# Altium integrated library TPS7A2033PDBVR.IntLib: 1 symbol
Pins are listed as number, name and electrical type; pins without a type are passive.

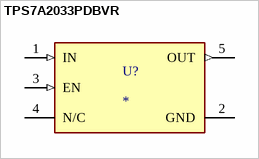
[diagram p0: symbol TPS7A2033PDBVR]

## TPS7A2033PDBVR
designator U?
300-mA ultra-low-noise low-IQ low-dropout (LDO) linear regulator with high PSRR; MF: Texas Instruments; MP: TPS7A2033PDBVR; SnapEDA_Link: https://www.snapeda.com/parts/TPS7A2033PDBVR/Texas+Instruments/view-part/?ref=snap; Package: SOT-23 Texas Instruments; Value: *; Check_prices: https://www.snapeda.com/parts/TPS7A2033PDBVR/Texas+Instruments/view-part/?ref=eda
footprint SOT95P280X145-5N
pins: 1 IN (in), 2 GND (power), 3 EN (in), 4 N/C, 5 OUT (out)